# Altium schematic symbol library Molex_430450415.SchLib: 1 symbol
Pins are listed as number, name and electrical type; pins without a type are passive.

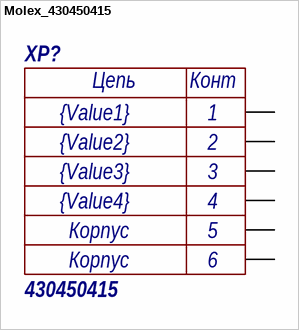
[diagram p0: symbol Molex_430450415]

## Molex_430450415
designator XP?, comment 430450415  Value1: {Value1}  Value2: {Value2}  Value3: {Value3}  Value4: {Value4}
pins: 0, 0, 1, 2, 3, 4
text: Цепь; Конт; Корпус; 5; 6